# Altium schematic symbol library PLT10HH.Schlib: 1 symbol
Pins are listed as number, name and electrical type; pins without a type are passive.

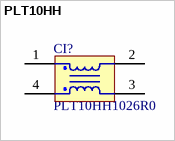
[diagram p0: symbol PLT10HH]

## PLT10HH
designator CI?, comment value PLT10HH1026R0  (hidden comment: Coupled Inductor)
Назначение: Связанная индуктивность; Наименование: PLT10HH
footprint PLT10HH1026R0PN (Coupled Inductor)
pins: 1, 2, 3, 4